# EAGLE library part CD40109 (library nixiemisc)
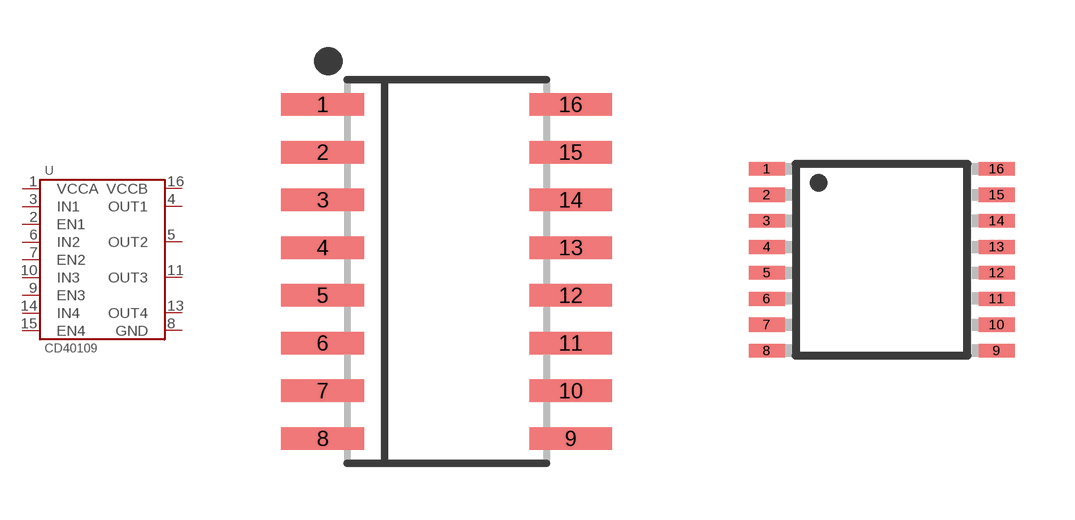
[diagram p1: symbol with the pads of SOIC16-5.3MM; footprints SOIC16-5.3MM, TSSOP-16]

Designator prefix U

## CD40109BNSR  [SOIC16-5.3MM]
1  VCCA
2  EN1
3  IN1
4  OUT1
5  OUT2
6  IN2
7  EN2
8  GND
9  EN3
10  IN3
11  OUT3
13  OUT4
14  IN4
15  EN4
16  VCCB

## CD40109  [TSSOP-16]
Pads as for SOIC16-5.3MM

## CD40109DIP16  [DIP16]
Pads as for SOIC16-5.3MM

## Footprint SOIC16-5.3MM (pad centres in mm)
smd 2.2 x 0.6: 1 -3.3,4.445; 2 -3.3,3.175; 3 -3.3,1.905; 4 -3.3,0.635; 5 -3.3,-0.635; 6 -3.3,-1.905; 7 -3.3,-3.175; 8 -3.3,-4.445; 9 3.3,-4.445; 10 3.3,-3.175; 11 3.3,-1.905; 12 3.3,-0.635; 13 3.3,0.635; 14 3.3,1.905; 15 3.3,3.175; 16 3.3,4.445

## Footprint TSSOP-16 (pad centres in mm)
16-Lead Thin Shrink Small Outline Package [TSSOP] (RU-16) Source: 8x ADG1408_1409.pdf
smd 0.9 x 0.35: 1 -2.875,2.275; 2 -2.875,1.625; 3 -2.875,0.975; 4 -2.875,0.325; 5 -2.875,-0.325; 6 -2.875,-0.975; 7 -2.875,-1.625; 8 -2.875,-2.275; 9 2.875,-2.275; 10 2.875,-1.625; 11 2.875,-0.975; 12 2.875,-0.325; 13 2.875,0.325; 14 2.875,0.975; 15 2.875,1.625; 16 2.875,2.275

## Footprint DIP16 (pad centres in mm)
Dual In Line Package
drill 0.813 pad 1.626: 1 -8.89,-3.81; 2 -6.35,-3.81; 3 -3.81,-3.81; 4 -1.27,-3.81; 5 1.27,-3.81; 6 3.81,-3.81; 7 6.35,-3.81; 8 8.89,-3.81; 9 8.89,3.81; 10 6.35,3.81; 11 3.81,3.81; 12 1.27,3.81; 13 -1.27,3.81; 14 -3.81,3.81; 15 -6.35,3.81; 16 -8.89,3.81